# Altium schematic symbol library WCAP-ATG8.SchLib: 195 symbols (part 2 of 3)
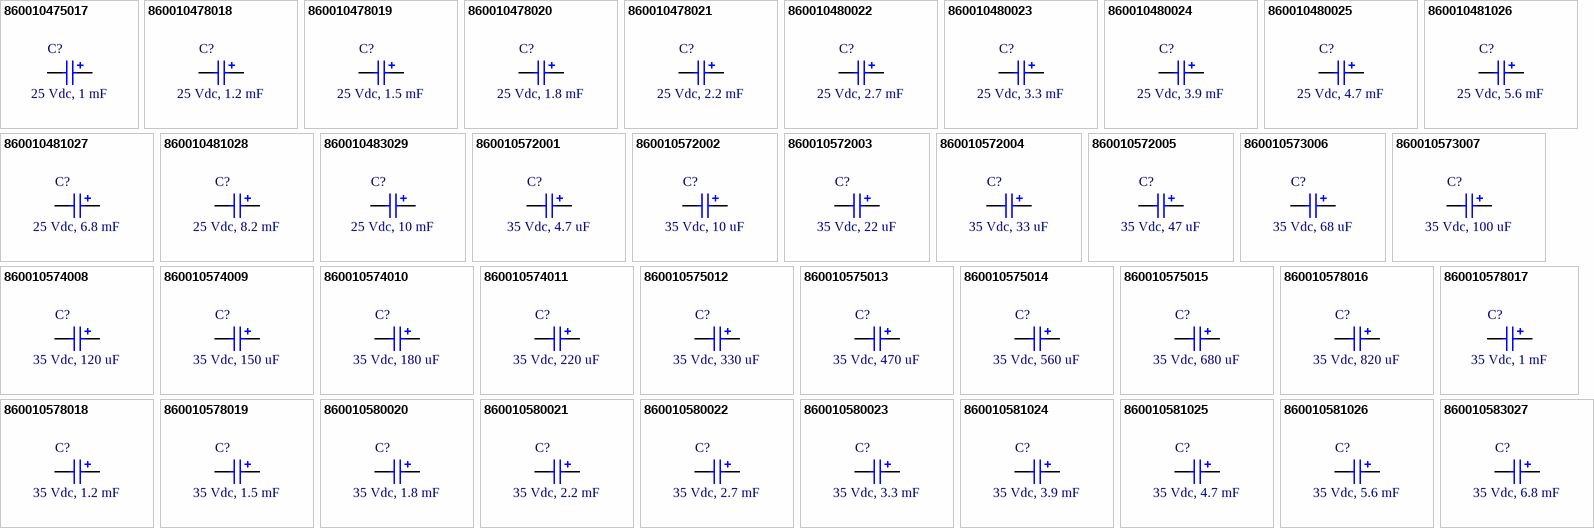
[diagram p5: symbols 860010475017 to 860010583027]

## 860010480024
designator C?, comment 25 Vdc, 3.9 mF
WCAP-ATG8 Aluminum Electrolytic Capacitors, 16x31.5mm, 25 Vdc, 3.9 mF; Part Number: 860010480024; Rated Voltage: 25 Vdc; Value: 3.9 mF; ComponentLink1Description: Manufacturer; ComponentLink1URL: http://www.we-online.de; ComponentLink2Description: Datasheet; ComponentLink2URL: http://katalog.we-online.de/pbs/datasheet/860010480024.pdf; Published Date: Sep. 2017; Publisher: Wurth Elektronik; Size: 16x31.5mm; Life Cycle: 2000h; Operating Temperature: -40 °C up to +85 °C
footprint WCAP-ATG8_16x31.5x7.5
pins: 1 P, 2 N

## 860010480025
designator C?, comment 25 Vdc, 4.7 mF
WCAP-ATG8 Aluminum Electrolytic Capacitors, 16x31.5mm, 25 Vdc, 4.7 mF; Part Number: 860010480025; Rated Voltage: 25 Vdc; Value: 4.7 mF; ComponentLink1Description: Manufacturer; ComponentLink1URL: http://www.we-online.de; ComponentLink2Description: Datasheet; ComponentLink2URL: http://katalog.we-online.de/pbs/datasheet/860010480025.pdf; Published Date: Sep. 2017; Publisher: Wurth Elektronik; Size: 16x31.5mm; Life Cycle: 2000h; Operating Temperature: -40 °C up to +85 °C
footprint WCAP-ATG8_16x31.5x7.5
pins: 1 P, 2 N

## 860010481026
designator C?, comment 25 Vdc, 5.6 mF
WCAP-ATG8 Aluminum Electrolytic Capacitors, 18x31.5mm, 25 Vdc, 5.6 mF; Part Number: 860010481026; Rated Voltage: 25 Vdc; Value: 5.6 mF; ComponentLink1Description: Manufacturer; ComponentLink1URL: http://www.we-online.de; ComponentLink2Description: Datasheet; ComponentLink2URL: http://katalog.we-online.de/pbs/datasheet/860010481026.pdf; Published Date: Sep. 2017; Publisher: Wurth Elektronik; Size: 18x31.5mm; Life Cycle: 2000h; Operating Temperature: -40 °C up to +85 °C
footprint WCAP-ATG8_18x31.5x7.5
pins: 1 P, 2 N

## 860010481027
designator C?, comment 25 Vdc, 6.8 mF
WCAP-ATG8 Aluminum Electrolytic Capacitors, 18x35.5mm, 25 Vdc, 6.8 mF; Part Number: 860010481027; Rated Voltage: 25 Vdc; Value: 6.8 mF; ComponentLink1Description: Manufacturer; ComponentLink1URL: http://www.we-online.de; ComponentLink2Description: Datasheet; ComponentLink2URL: http://katalog.we-online.de/pbs/datasheet/860010481027.pdf; Published Date: Sep. 2017; Publisher: Wurth Elektronik; Size: 18x35.5mm; Life Cycle: 2000h; Operating Temperature: -40 °C up to +85 °C
footprint WCAP-ATG8_18x35.5x7.5
pins: 1 P, 2 N

## 860010481028
designator C?, comment 25 Vdc, 8.2 mF
WCAP-ATG8 Aluminum Electrolytic Capacitors, 18x35.5mm, 25 Vdc, 8.2 mF; Part Number: 860010481028; Rated Voltage: 25 Vdc; Value: 8.2 mF; ComponentLink1Description: Manufacturer; ComponentLink1URL: http://www.we-online.de; ComponentLink2Description: Datasheet; ComponentLink2URL: http://katalog.we-online.de/pbs/datasheet/860010481028.pdf; Published Date: Sep. 2017; Publisher: Wurth Elektronik; Size: 18x35.5mm; Life Cycle: 2000h; Operating Temperature: -40 °C up to +85 °C
footprint WCAP-ATG8_18x35.5x7.5
pins: 1 P, 2 N

## 860010483029
designator C?, comment 25 Vdc, 10 mF
WCAP-ATG8 Aluminum Electrolytic Capacitors, 22x41mm, 25 Vdc, 10 mF; Part Number: 860010483029; Rated Voltage: 25 Vdc; Value: 10 mF; ComponentLink1Description: Manufacturer; ComponentLink1URL: http://www.we-online.de; ComponentLink2Description: Datasheet; ComponentLink2URL: http://katalog.we-online.de/pbs/datasheet/860010483029.pdf; Published Date: Sep. 2017; Publisher: Wurth Elektronik; Size: 22x41mm; Life Cycle: 2000h; Operating Temperature: -40 °C up to +85 °C
footprint WCAP-ATG8_22x41x10
pins: 1 P, 2 N

## 860010572001
designator C?, comment 35 Vdc, 4.7 uF
WCAP-ATG8 Aluminum Electrolytic Capacitors, 5x11mm, 35 Vdc, 4.7 uF; Part Number: 860010572001; Rated Voltage: 35 Vdc; Value: 4.7 uF; ComponentLink1Description: Manufacturer; ComponentLink1URL: http://www.we-online.de; ComponentLink2Description: Datasheet; ComponentLink2URL: http://katalog.we-online.de/pbs/datasheet/860010572001.pdf; Published Date: Sep. 2017; Publisher: Wurth Elektronik; Size: 5x11mm; Life Cycle: 2000h; Operating Temperature: -40 °C up to +85 °C
footprint WCAP-ATG8_5x11x2
pins: 1 P, 2 N

## 860010572002
designator C?, comment 35 Vdc, 10 uF
WCAP-ATG8 Aluminum Electrolytic Capacitors, 5x11mm, 35 Vdc, 10 uF; Part Number: 860010572002; Rated Voltage: 35 Vdc; Value: 10 uF; ComponentLink1Description: Manufacturer; ComponentLink1URL: http://www.we-online.de; ComponentLink2Description: Datasheet; ComponentLink2URL: http://katalog.we-online.de/pbs/datasheet/860010572002.pdf; Published Date: Sep. 2017; Publisher: Wurth Elektronik; Size: 5x11mm; Life Cycle: 2000h; Operating Temperature: -40 °C up to +85 °C
footprint WCAP-ATG8_5x11x2
pins: 1 P, 2 N

## 860010572003
designator C?, comment 35 Vdc, 22 uF
WCAP-ATG8 Aluminum Electrolytic Capacitors, 5x11mm, 35 Vdc, 22 uF; Part Number: 860010572003; Rated Voltage: 35 Vdc; Value: 22 uF; ComponentLink1Description: Manufacturer; ComponentLink1URL: http://www.we-online.de; ComponentLink2Description: Datasheet; ComponentLink2URL: http://katalog.we-online.de/pbs/datasheet/860010572003.pdf; Published Date: Sep. 2017; Publisher: Wurth Elektronik; Size: 5x11mm; Life Cycle: 2000h; Operating Temperature: -40 °C up to +85 °C
footprint WCAP-ATG8_5x11x2
pins: 1 P, 2 N

## 860010572004
designator C?, comment 35 Vdc, 33 uF
WCAP-ATG8 Aluminum Electrolytic Capacitors, 5x11mm, 35 Vdc, 33 uF; Part Number: 860010572004; Rated Voltage: 35 Vdc; Value: 33 uF; ComponentLink1Description: Manufacturer; ComponentLink1URL: http://www.we-online.de; ComponentLink2Description: Datasheet; ComponentLink2URL: http://katalog.we-online.de/pbs/datasheet/860010572004.pdf; Published Date: Sep. 2017; Publisher: Wurth Elektronik; Size: 5x11mm; Life Cycle: 2000h; Operating Temperature: -40 °C up to +85 °C
footprint WCAP-ATG8_5x11x2
pins: 1 P, 2 N

## 860010572005
designator C?, comment 35 Vdc, 47 uF
WCAP-ATG8 Aluminum Electrolytic Capacitors, 5x11mm, 35 Vdc, 47 uF; Part Number: 860010572005; Rated Voltage: 35 Vdc; Value: 47 uF; ComponentLink1Description: Manufacturer; ComponentLink1URL: http://www.we-online.de; ComponentLink2Description: Datasheet; ComponentLink2URL: http://katalog.we-online.de/pbs/datasheet/860010572005.pdf; Published Date: Sep. 2017; Publisher: Wurth Elektronik; Size: 5x11mm; Life Cycle: 2000h; Operating Temperature: -40 °C up to +85 °C
footprint WCAP-ATG8_5x11x2
pins: 1 P, 2 N

## 860010573006
designator C?, comment 35 Vdc, 68 uF
WCAP-ATG8 Aluminum Electrolytic Capacitors, 6.3x11mm, 35 Vdc, 68 uF; Part Number: 860010573006; Rated Voltage: 35 Vdc; Value: 68 uF; ComponentLink1Description: Manufacturer; ComponentLink1URL: http://www.we-online.de; ComponentLink2Description: Datasheet; ComponentLink2URL: http://katalog.we-online.de/pbs/datasheet/860010573006.pdf; Published Date: Sep. 2017; Publisher: Wurth Elektronik; Size: 6.3x11mm; Life Cycle: 2000h; Operating Temperature: -40 °C up to +85 °C
footprint WCAP-ATG8_6.3x11x2.5
pins: 1 P, 2 N

## 860010573007
designator C?, comment 35 Vdc, 100 uF
WCAP-ATG8 Aluminum Electrolytic Capacitors, 6.3x11mm, 35 Vdc, 100 uF; Part Number: 860010573007; Rated Voltage: 35 Vdc; Value: 100 uF; ComponentLink1Description: Manufacturer; ComponentLink1URL: http://www.we-online.de; ComponentLink2Description: Datasheet; ComponentLink2URL: http://katalog.we-online.de/pbs/datasheet/860010573007.pdf; Published Date: Sep. 2017; Publisher: Wurth Elektronik; Size: 6.3x11mm; Life Cycle: 2000h; Operating Temperature: -40 °C up to +85 °C
footprint WCAP-ATG8_6.3x11x2.5
pins: 1 P, 2 N

## 860010574008
designator C?, comment 35 Vdc, 120 uF
WCAP-ATG8 Aluminum Electrolytic Capacitors, 8x11.5mm, 35 Vdc, 120 uF; Part Number: 860010574008; Rated Voltage: 35 Vdc; Value: 120 uF; ComponentLink1Description: Manufacturer; ComponentLink1URL: http://www.we-online.de; ComponentLink2Description: Datasheet; ComponentLink2URL: http://katalog.we-online.de/pbs/datasheet/860010574008.pdf; Published Date: Sep. 2017; Publisher: Wurth Elektronik; Size: 8x11.5mm; Life Cycle: 2000h; Operating Temperature: -40 °C up to +85 °C
footprint WCAP-ATG8_8x11.5x3.5
pins: 1 P, 2 N

## 860010574009
designator C?, comment 35 Vdc, 150 uF
WCAP-ATG8 Aluminum Electrolytic Capacitors, 8x11.5mm, 35 Vdc, 150 uF; Part Number: 860010574009; Rated Voltage: 35 Vdc; Value: 150 uF; ComponentLink1Description: Manufacturer; ComponentLink1URL: http://www.we-online.de; ComponentLink2Description: Datasheet; ComponentLink2URL: http://katalog.we-online.de/pbs/datasheet/860010574009.pdf; Published Date: Sep. 2017; Publisher: Wurth Elektronik; Size: 8x11.5mm; Life Cycle: 2000h; Operating Temperature: -40 °C up to +85 °C
footprint WCAP-ATG8_8x11.5x3.5
pins: 1 P, 2 N

## 860010574010
designator C?, comment 35 Vdc, 180 uF
WCAP-ATG8 Aluminum Electrolytic Capacitors, 8x11.5mm, 35 Vdc, 180 uF; Part Number: 860010574010; Rated Voltage: 35 Vdc; Value: 180 uF; ComponentLink1Description: Manufacturer; ComponentLink1URL: http://www.we-online.de; ComponentLink2Description: Datasheet; ComponentLink2URL: http://katalog.we-online.de/pbs/datasheet/860010574010.pdf; Published Date: Sep. 2017; Publisher: Wurth Elektronik; Size: 8x11.5mm; Life Cycle: 2000h; Operating Temperature: -40 °C up to +85 °C
footprint WCAP-ATG8_8x11.5x3.5
pins: 1 P, 2 N

## 860010574011
designator C?, comment 35 Vdc, 220 uF
WCAP-ATG8 Aluminum Electrolytic Capacitors, 8x11.5mm, 35 Vdc, 220 uF; Part Number: 860010574011; Rated Voltage: 35 Vdc; Value: 220 uF; ComponentLink1Description: Manufacturer; ComponentLink1URL: http://www.we-online.de; ComponentLink2Description: Datasheet; ComponentLink2URL: http://katalog.we-online.de/pbs/datasheet/860010574011.pdf; Published Date: Sep. 2017; Publisher: Wurth Elektronik; Size: 8x11.5mm; Life Cycle: 2000h; Operating Temperature: -40 °C up to +85 °C
footprint WCAP-ATG8_8x11.5x3.5
pins: 1 P, 2 N

## 860010575012
designator C?, comment 35 Vdc, 330 uF
WCAP-ATG8 Aluminum Electrolytic Capacitors, 10x12.5mm, 35 Vdc, 330 uF; Part Number: 860010575012; Rated Voltage: 35 Vdc; Value: 330 uF; ComponentLink1Description: Manufacturer; ComponentLink1URL: http://www.we-online.de; ComponentLink2Description: Datasheet; ComponentLink2URL: http://katalog.we-online.de/pbs/datasheet/860010575012.pdf; Published Date: Sep. 2017; Publisher: Wurth Elektronik; Size: 10x12.5mm; Life Cycle: 2000h; Operating Temperature: -40 °C up to +85 °C
footprint WCAP-ATG8_10x12.5x5
pins: 1 P, 2 N

## 860010575013
designator C?, comment 35 Vdc, 470 uF
WCAP-ATG8 Aluminum Electrolytic Capacitors, 10x16mm, 35 Vdc, 470 uF; Part Number: 860010575013; Rated Voltage: 35 Vdc; Value: 470 uF; ComponentLink1Description: Manufacturer; ComponentLink1URL: http://www.we-online.de; ComponentLink2Description: Datasheet; ComponentLink2URL: http://katalog.we-online.de/pbs/datasheet/860010575013.pdf; Published Date: Sep. 2017; Publisher: Wurth Elektronik; Size: 10x16mm; Life Cycle: 2000h; Operating Temperature: -40 °C up to +85 °C
footprint WCAP-ATG8_10x16x5
pins: 1 P, 2 N

## 860010575014
designator C?, comment 35 Vdc, 560 uF
WCAP-ATG8 Aluminum Electrolytic Capacitors, 10x20mm, 35 Vdc, 560 uF; Part Number: 860010575014; Rated Voltage: 35 Vdc; Value: 560 uF; ComponentLink1Description: Manufacturer; ComponentLink1URL: http://www.we-online.de; ComponentLink2Description: Datasheet; ComponentLink2URL: http://katalog.we-online.de/pbs/datasheet/860010575014.pdf; Published Date: Sep. 2017; Publisher: Wurth Elektronik; Size: 10x20mm; Life Cycle: 2000h; Operating Temperature: -40 °C up to +85 °C
footprint WCAP-ATG8_10x20x5
pins: 1 P, 2 N

## 860010575015
designator C?, comment 35 Vdc, 680 uF
WCAP-ATG8 Aluminum Electrolytic Capacitors, 10x20mm, 35 Vdc, 680 uF; Part Number: 860010575015; Rated Voltage: 35 Vdc; Value: 680 uF; ComponentLink1Description: Manufacturer; ComponentLink1URL: http://www.we-online.de; ComponentLink2Description: Datasheet; ComponentLink2URL: http://katalog.we-online.de/pbs/datasheet/860010575015.pdf; Published Date: Sep. 2017; Publisher: Wurth Elektronik; Size: 10x20mm; Life Cycle: 2000h; Operating Temperature: -40 °C up to +85 °C
footprint WCAP-ATG8_10x20x5
pins: 1 P, 2 N

## 860010578016
designator C?, comment 35 Vdc, 820 uF
WCAP-ATG8 Aluminum Electrolytic Capacitors, 13x20mm, 35 Vdc, 820 uF; Part Number: 860010578016; Rated Voltage: 35 Vdc; Value: 820 uF; ComponentLink1Description: Manufacturer; ComponentLink1URL: http://www.we-online.de; ComponentLink2Description: Datasheet; ComponentLink2URL: http://katalog.we-online.de/pbs/datasheet/860010578016.pdf; Published Date: Sep. 2017; Publisher: Wurth Elektronik; Size: 13x20mm; Life Cycle: 2000h; Operating Temperature: -40 °C up to +85 °C
footprint WCAP-ATG8_13x20x5
pins: 1 P, 2 N

## 860010578017
designator C?, comment 35 Vdc, 1 mF
WCAP-ATG8 Aluminum Electrolytic Capacitors, 13x20mm, 35 Vdc, 1 mF; Part Number: 860010578017; Rated Voltage: 35 Vdc; Value: 1 mF; ComponentLink1Description: Manufacturer; ComponentLink1URL: http://www.we-online.de; ComponentLink2Description: Datasheet; ComponentLink2URL: http://katalog.we-online.de/pbs/datasheet/860010578017.pdf; Published Date: Sep. 2017; Publisher: Wurth Elektronik; Size: 13x20mm; Life Cycle: 2000h; Operating Temperature: -40 °C up to +85 °C
footprint WCAP-ATG8_13x20x5
pins: 1 P, 2 N

## 860010578018
designator C?, comment 35 Vdc, 1.2 mF
WCAP-ATG8 Aluminum Electrolytic Capacitors, 13x20mm, 35 Vdc, 1.2 mF; Part Number: 860010578018; Rated Voltage: 35 Vdc; Value: 1.2 mF; ComponentLink1Description: Manufacturer; ComponentLink1URL: http://www.we-online.de; ComponentLink2Description: Datasheet; ComponentLink2URL: http://katalog.we-online.de/pbs/datasheet/860010578018.pdf; Published Date: Sep. 2017; Publisher: Wurth Elektronik; Size: 13x20mm; Life Cycle: 2000h; Operating Temperature: -40 °C up to +85 °C
footprint WCAP-ATG8_13x20x5
pins: 1 P, 2 N

## 860010578019
designator C?, comment 35 Vdc, 1.5 mF
WCAP-ATG8 Aluminum Electrolytic Capacitors, 13x25mm, 35 Vdc, 1.5 mF; Part Number: 860010578019; Rated Voltage: 35 Vdc; Value: 1.5 mF; ComponentLink1Description: Manufacturer; ComponentLink1URL: http://www.we-online.de; ComponentLink2Description: Datasheet; ComponentLink2URL: http://katalog.we-online.de/pbs/datasheet/860010578019.pdf; Published Date: Sep. 2017; Publisher: Wurth Elektronik; Size: 13x25mm; Life Cycle: 2000h; Operating Temperature: -40 °C up to +85 °C
footprint WCAP-ATG8_13x25x5
pins: 1 P, 2 N

## 860010580020
designator C?, comment 35 Vdc, 1.8 mF
WCAP-ATG8 Aluminum Electrolytic Capacitors, 16x25mm, 35 Vdc, 1.8 mF; Part Number: 860010580020; Rated Voltage: 35 Vdc; Value: 1.8 mF; ComponentLink1Description: Manufacturer; ComponentLink1URL: http://www.we-online.de; ComponentLink2Description: Datasheet; ComponentLink2URL: http://katalog.we-online.de/pbs/datasheet/860010580020.pdf; Published Date: Sep. 2017; Publisher: Wurth Elektronik; Size: 16x25mm; Life Cycle: 2000h; Operating Temperature: -40 °C up to +85 °C
footprint WCAP-ATG8_16x25x7.5
pins: 1 P, 2 N

## 860010580021
designator C?, comment 35 Vdc, 2.2 mF
WCAP-ATG8 Aluminum Electrolytic Capacitors, 16x25mm, 35 Vdc, 2.2 mF; Part Number: 860010580021; Rated Voltage: 35 Vdc; Value: 2.2 mF; ComponentLink1Description: Manufacturer; ComponentLink1URL: http://www.we-online.de; ComponentLink2Description: Datasheet; ComponentLink2URL: http://katalog.we-online.de/pbs/datasheet/860010580021.pdf; Published Date: Sep. 2017; Publisher: Wurth Elektronik; Size: 16x25mm; Life Cycle: 2000h; Operating Temperature: -40 °C up to +85 °C
footprint WCAP-ATG8_16x25x7.5
pins: 1 P, 2 N

## 860010580022
designator C?, comment 35 Vdc, 2.7 mF
WCAP-ATG8 Aluminum Electrolytic Capacitors, 16x31.5mm, 35 Vdc, 2.7 mF; Part Number: 860010580022; Rated Voltage: 35 Vdc; Value: 2.7 mF; ComponentLink1Description: Manufacturer; ComponentLink1URL: http://www.we-online.de; ComponentLink2Description: Datasheet; ComponentLink2URL: http://katalog.we-online.de/pbs/datasheet/860010580022.pdf; Published Date: Sep. 2017; Publisher: Wurth Elektronik; Size: 16x31.5mm; Life Cycle: 2000h; Operating Temperature: -40 °C up to +85 °C
footprint WCAP-ATG8_16x31.5x7.5
pins: 1 P, 2 N

## 860010580023
designator C?, comment 35 Vdc, 3.3 mF
WCAP-ATG8 Aluminum Electrolytic Capacitors, 16x31.5mm, 35 Vdc, 3.3 mF; Part Number: 860010580023; Rated Voltage: 35 Vdc; Value: 3.3 mF; ComponentLink1Description: Manufacturer; ComponentLink1URL: http://www.we-online.de; ComponentLink2Description: Datasheet; ComponentLink2URL: http://katalog.we-online.de/pbs/datasheet/860010580023.pdf; Published Date: Sep. 2017; Publisher: Wurth Elektronik; Size: 16x31.5mm; Life Cycle: 2000h; Operating Temperature: -40 °C up to +85 °C
footprint WCAP-ATG8_16x31.5x7.5
pins: 1 P, 2 N

## 860010581024
designator C?, comment 35 Vdc, 3.9 mF
WCAP-ATG8 Aluminum Electrolytic Capacitors, 18x31.5mm, 35 Vdc, 3.9 mF; Part Number: 860010581024; Rated Voltage: 35 Vdc; Value: 3.9 mF; ComponentLink1Description: Manufacturer; ComponentLink1URL: http://www.we-online.de; ComponentLink2Description: Datasheet; ComponentLink2URL: http://katalog.we-online.de/pbs/datasheet/860010581024.pdf; Published Date: Sep. 2017; Publisher: Wurth Elektronik; Size: 18x31.5mm; Life Cycle: 2000h; Operating Temperature: -40 °C up to +85 °C
footprint WCAP-ATG8_18x31.5x7.5
pins: 1 P, 2 N

## 860010581025
designator C?, comment 35 Vdc, 4.7 mF
WCAP-ATG8 Aluminum Electrolytic Capacitors, 18x35.5mm, 35 Vdc, 4.7 mF; Part Number: 860010581025; Rated Voltage: 35 Vdc; Value: 4.7 mF; ComponentLink1Description: Manufacturer; ComponentLink1URL: http://www.we-online.de; ComponentLink2Description: Datasheet; ComponentLink2URL: http://katalog.we-online.de/pbs/datasheet/860010581025.pdf; Published Date: Sep. 2017; Publisher: Wurth Elektronik; Size: 18x35.5mm; Life Cycle: 2000h; Operating Temperature: -40 °C up to +85 °C
footprint WCAP-ATG8_18x35.5x7.5
pins: 1 P, 2 N

## 860010581026
designator C?, comment 35 Vdc, 5.6 mF
WCAP-ATG8 Aluminum Electrolytic Capacitors, 18x41mm, 35 Vdc, 5.6 mF; Part Number: 860010581026; Rated Voltage: 35 Vdc; Value: 5.6 mF; ComponentLink1Description: Manufacturer; ComponentLink1URL: http://www.we-online.de; ComponentLink2Description: Datasheet; ComponentLink2URL: http://katalog.we-online.de/pbs/datasheet/860010581026.pdf; Published Date: Sep. 2017; Publisher: Wurth Elektronik; Size: 18x41mm; Life Cycle: 2000h; Operating Temperature: -40 °C up to +85 °C
footprint WCAP-ATG8_18x41x7.5
pins: 1 P, 2 N

## 860010583027
designator C?, comment 35 Vdc, 6.8 mF
WCAP-ATG8 Aluminum Electrolytic Capacitors, 22x41mm, 35 Vdc, 6.8 mF; Part Number: 860010583027; Rated Voltage: 35 Vdc; Value: 6.8 mF; ComponentLink1Description: Manufacturer; ComponentLink1URL: http://www.we-online.de; ComponentLink2Description: Datasheet; ComponentLink2URL: http://katalog.we-online.de/pbs/datasheet/860010583027.pdf; Published Date: Sep. 2017; Publisher: Wurth Elektronik; Size: 22x41mm; Life Cycle: 2000h; Operating Temperature: -40 °C up to +85 °C
footprint WCAP-ATG8_22x41x10
pins: 1 P, 2 N

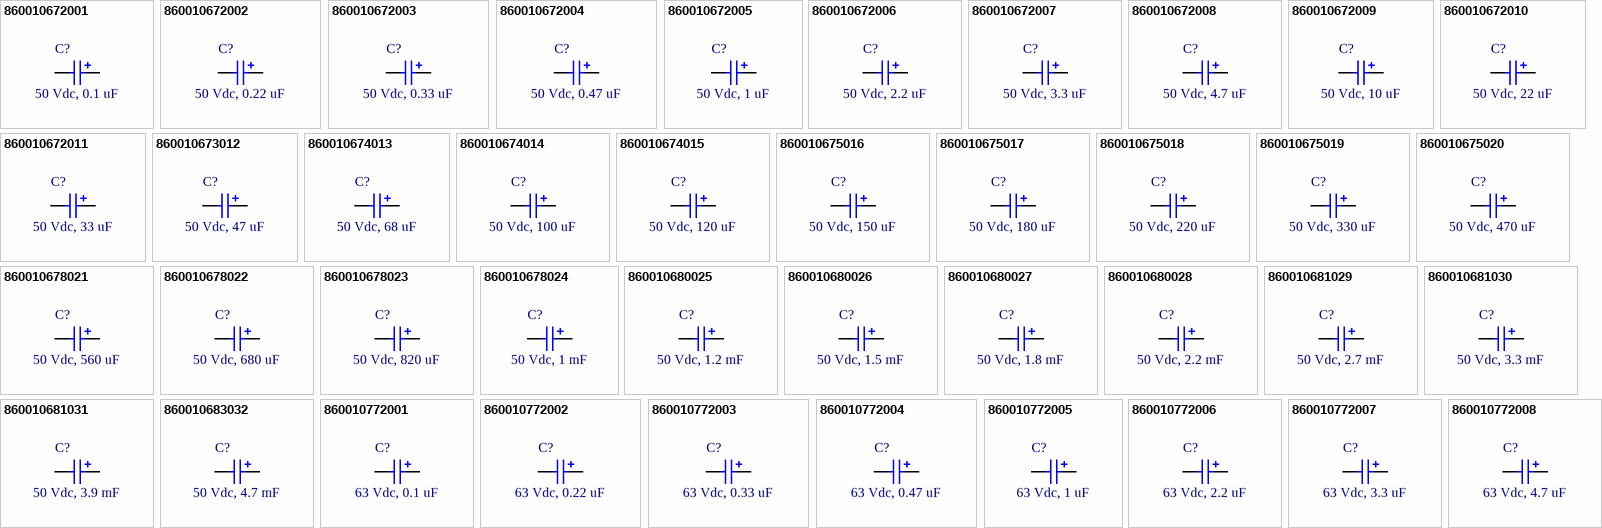
[diagram p3: symbols 860010672001 to 860010772008]

## 860010672001
designator C?, comment 50 Vdc, 0.1 uF
WCAP-ATG8 Aluminum Electrolytic Capacitors, 5x11mm, 50 Vdc, 0.1 uF; Part Number: 860010672001; Rated Voltage: 50 Vdc; Value: 0.1 uF; ComponentLink1Description: Manufacturer; ComponentLink1URL: http://www.we-online.de; ComponentLink2Description: Datasheet; ComponentLink2URL: http://katalog.we-online.de/pbs/datasheet/860010672001.pdf; Published Date: Sep. 2017; Publisher: Wurth Elektronik; Size: 5x11mm; Life Cycle: 2000h; Operating Temperature: -40 °C up to +85 °C
footprint WCAP-ATG8_5x11x2
pins: 1 P, 2 N

## 860010672002
designator C?, comment 50 Vdc, 0.22 uF
WCAP-ATG8 Aluminum Electrolytic Capacitors, 5x11mm, 50 Vdc, 0.22 uF; Part Number: 860010672002; Rated Voltage: 50 Vdc; Value: 0.22 uF; ComponentLink1Description: Manufacturer; ComponentLink1URL: http://www.we-online.de; ComponentLink2Description: Datasheet; ComponentLink2URL: http://katalog.we-online.de/pbs/datasheet/860010672002.pdf; Published Date: Sep. 2017; Publisher: Wurth Elektronik; Size: 5x11mm; Life Cycle: 2000h; Operating Temperature: -40 °C up to +85 °C
footprint WCAP-ATG8_5x11x2
pins: 1 P, 2 N

## 860010672003
designator C?, comment 50 Vdc, 0.33 uF
WCAP-ATG8 Aluminum Electrolytic Capacitors, 5x11mm, 50 Vdc, 0.33 uF; Part Number: 860010672003; Rated Voltage: 50 Vdc; Value: 0.33 uF; ComponentLink1Description: Manufacturer; ComponentLink1URL: http://www.we-online.de; ComponentLink2Description: Datasheet; ComponentLink2URL: http://katalog.we-online.de/pbs/datasheet/860010672003.pdf; Published Date: Sep. 2017; Publisher: Wurth Elektronik; Size: 5x11mm; Life Cycle: 2000h; Operating Temperature: -40 °C up to +85 °C
footprint WCAP-ATG8_5x11x2
pins: 1 P, 2 N

## 860010672004
designator C?, comment 50 Vdc, 0.47 uF
WCAP-ATG8 Aluminum Electrolytic Capacitors, 5x11mm, 50 Vdc, 0.47 uF; Part Number: 860010672004; Rated Voltage: 50 Vdc; Value: 0.47 uF; ComponentLink1Description: Manufacturer; ComponentLink1URL: http://www.we-online.de; ComponentLink2Description: Datasheet; ComponentLink2URL: http://katalog.we-online.de/pbs/datasheet/860010672004.pdf; Published Date: Sep. 2017; Publisher: Wurth Elektronik; Size: 5x11mm; Life Cycle: 2000h; Operating Temperature: -40 °C up to +85 °C
footprint WCAP-ATG8_5x11x2
pins: 1 P, 2 N

## 860010672005
designator C?, comment 50 Vdc, 1 uF
WCAP-ATG8 Aluminum Electrolytic Capacitors, 5x11mm, 50 Vdc, 1 uF; Part Number: 860010672005; Rated Voltage: 50 Vdc; Value: 1 uF; ComponentLink1Description: Manufacturer; ComponentLink1URL: http://www.we-online.de; ComponentLink2Description: Datasheet; ComponentLink2URL: http://katalog.we-online.de/pbs/datasheet/860010672005.pdf; Published Date: Sep. 2017; Publisher: Wurth Elektronik; Size: 5x11mm; Life Cycle: 2000h; Operating Temperature: -40 °C up to +85 °C
footprint WCAP-ATG8_5x11x2
pins: 1 P, 2 N

## 860010672006
designator C?, comment 50 Vdc, 2.2 uF
WCAP-ATG8 Aluminum Electrolytic Capacitors, 5x11mm, 50 Vdc, 2.2 uF; Part Number: 860010672006; Rated Voltage: 50 Vdc; Value: 2.2 uF; ComponentLink1Description: Manufacturer; ComponentLink1URL: http://www.we-online.de; ComponentLink2Description: Datasheet; ComponentLink2URL: http://katalog.we-online.de/pbs/datasheet/860010672006.pdf; Published Date: Sep. 2017; Publisher: Wurth Elektronik; Size: 5x11mm; Life Cycle: 2000h; Operating Temperature: -40 °C up to +85 °C
footprint WCAP-ATG8_5x11x2
pins: 1 P, 2 N

## 860010672007
designator C?, comment 50 Vdc, 3.3 uF
WCAP-ATG8 Aluminum Electrolytic Capacitors, 5x11mm, 50 Vdc, 3.3 uF; Part Number: 860010672007; Rated Voltage: 50 Vdc; Value: 3.3 uF; ComponentLink1Description: Manufacturer; ComponentLink1URL: http://www.we-online.de; ComponentLink2Description: Datasheet; ComponentLink2URL: http://katalog.we-online.de/pbs/datasheet/860010672007.pdf; Published Date: Sep. 2017; Publisher: Wurth Elektronik; Size: 5x11mm; Life Cycle: 2000h; Operating Temperature: -40 °C up to +85 °C
footprint WCAP-ATG8_5x11x2
pins: 1 P, 2 N

## 860010672008
designator C?, comment 50 Vdc, 4.7 uF
WCAP-ATG8 Aluminum Electrolytic Capacitors, 5x11mm, 50 Vdc, 4.7 uF; Part Number: 860010672008; Rated Voltage: 50 Vdc; Value: 4.7 uF; ComponentLink1Description: Manufacturer; ComponentLink1URL: http://www.we-online.de; ComponentLink2Description: Datasheet; ComponentLink2URL: http://katalog.we-online.de/pbs/datasheet/860010672008.pdf; Published Date: Sep. 2017; Publisher: Wurth Elektronik; Size: 5x11mm; Life Cycle: 2000h; Operating Temperature: -40 °C up to +85 °C
footprint WCAP-ATG8_5x11x2
pins: 1 P, 2 N

## 860010672009
designator C?, comment 50 Vdc, 10 uF
WCAP-ATG8 Aluminum Electrolytic Capacitors, 5x11mm, 50 Vdc, 10 uF; Part Number: 860010672009; Rated Voltage: 50 Vdc; Value: 10 uF; ComponentLink1Description: Manufacturer; ComponentLink1URL: http://www.we-online.de; ComponentLink2Description: Datasheet; ComponentLink2URL: http://katalog.we-online.de/pbs/datasheet/860010672009.pdf; Published Date: Sep. 2017; Publisher: Wurth Elektronik; Size: 5x11mm; Life Cycle: 2000h; Operating Temperature: -40 °C up to +85 °C
footprint WCAP-ATG8_5x11x2
pins: 1 P, 2 N

## 860010672010
designator C?, comment 50 Vdc, 22 uF
WCAP-ATG8 Aluminum Electrolytic Capacitors, 5x11mm, 50 Vdc, 22 uF; Part Number: 860010672010; Rated Voltage: 50 Vdc; Value: 22 uF; ComponentLink1Description: Manufacturer; ComponentLink1URL: http://www.we-online.de; ComponentLink2Description: Datasheet; ComponentLink2URL: http://katalog.we-online.de/pbs/datasheet/860010672010.pdf; Published Date: Sep. 2017; Publisher: Wurth Elektronik; Size: 5x11mm; Life Cycle: 2000h; Operating Temperature: -40 °C up to +85 °C
footprint WCAP-ATG8_5x11x2
pins: 1 P, 2 N

## 860010672011
designator C?, comment 50 Vdc, 33 uF
WCAP-ATG8 Aluminum Electrolytic Capacitors, 5x11mm, 50 Vdc, 33 uF; Part Number: 860010672011; Rated Voltage: 50 Vdc; Value: 33 uF; ComponentLink1Description: Manufacturer; ComponentLink1URL: http://www.we-online.de; ComponentLink2Description: Datasheet; ComponentLink2URL: http://katalog.we-online.de/pbs/datasheet/860010672011.pdf; Published Date: Sep. 2017; Publisher: Wurth Elektronik; Size: 5x11mm; Life Cycle: 2000h; Operating Temperature: -40 °C up to +85 °C
footprint WCAP-ATG8_5x11x2
pins: 1 P, 2 N

## 860010673012
designator C?, comment 50 Vdc, 47 uF
WCAP-ATG8 Aluminum Electrolytic Capacitors, 6.3x11mm, 50 Vdc, 47 uF; Part Number: 860010673012; Rated Voltage: 50 Vdc; Value: 47 uF; ComponentLink1Description: Manufacturer; ComponentLink1URL: http://www.we-online.de; ComponentLink2Description: Datasheet; ComponentLink2URL: http://katalog.we-online.de/pbs/datasheet/860010673012.pdf; Published Date: Sep. 2017; Publisher: Wurth Elektronik; Size: 6.3x11mm; Life Cycle: 2000h; Operating Temperature: -40 °C up to +85 °C
footprint WCAP-ATG8_6.3x11x2.5
pins: 1 P, 2 N

## 860010674013
designator C?, comment 50 Vdc, 68 uF
WCAP-ATG8 Aluminum Electrolytic Capacitors, 8x11.5mm, 50 Vdc, 68 uF; Part Number: 860010674013; Rated Voltage: 50 Vdc; Value: 68 uF; ComponentLink1Description: Manufacturer; ComponentLink1URL: http://www.we-online.de; ComponentLink2Description: Datasheet; ComponentLink2URL: http://katalog.we-online.de/pbs/datasheet/860010674013.pdf; Published Date: Sep. 2017; Publisher: Wurth Elektronik; Size: 8x11.5mm; Life Cycle: 2000h; Operating Temperature: -40 °C up to +85 °C
footprint WCAP-ATG8_8x11.5x3.5
pins: 1 P, 2 N

## 860010674014
designator C?, comment 50 Vdc, 100 uF
WCAP-ATG8 Aluminum Electrolytic Capacitors, 8x11.5mm, 50 Vdc, 100 uF; Part Number: 860010674014; Rated Voltage: 50 Vdc; Value: 100 uF; ComponentLink1Description: Manufacturer; ComponentLink1URL: http://www.we-online.de; ComponentLink2Description: Datasheet; ComponentLink2URL: http://katalog.we-online.de/pbs/datasheet/860010674014.pdf; Published Date: Sep. 2017; Publisher: Wurth Elektronik; Size: 8x11.5mm; Life Cycle: 2000h; Operating Temperature: -40 °C up to +85 °C
footprint WCAP-ATG8_8x11.5x3.5
pins: 1 P, 2 N

## 860010674015
designator C?, comment 50 Vdc, 120 uF
WCAP-ATG8 Aluminum Electrolytic Capacitors, 8x11.5mm, 50 Vdc, 120 uF; Part Number: 860010674015; Rated Voltage: 50 Vdc; Value: 120 uF; ComponentLink1Description: Manufacturer; ComponentLink1URL: http://www.we-online.de; ComponentLink2Description: Datasheet; ComponentLink2URL: http://katalog.we-online.de/pbs/datasheet/860010674015.pdf; Published Date: Sep. 2017; Publisher: Wurth Elektronik; Size: 8x11.5mm; Life Cycle: 2000h; Operating Temperature: -40 °C up to +85 °C
footprint WCAP-ATG8_8x11.5x3.5
pins: 1 P, 2 N

## 860010675016
designator C?, comment 50 Vdc, 150 uF
WCAP-ATG8 Aluminum Electrolytic Capacitors, 10x12.5mm, 50 Vdc, 150 uF; Part Number: 860010675016; Rated Voltage: 50 Vdc; Value: 150 uF; ComponentLink1Description: Manufacturer; ComponentLink1URL: http://www.we-online.de; ComponentLink2Description: Datasheet; ComponentLink2URL: http://katalog.we-online.de/pbs/datasheet/860010675016.pdf; Published Date: Sep. 2017; Publisher: Wurth Elektronik; Size: 10x12.5mm; Life Cycle: 2000h; Operating Temperature: -40 °C up to +85 °C
footprint WCAP-ATG8_10x12.5x5
pins: 1 P, 2 N

## 860010675017
designator C?, comment 50 Vdc, 180 uF
WCAP-ATG8 Aluminum Electrolytic Capacitors, 10x12.5mm, 50 Vdc, 180 uF; Part Number: 860010675017; Rated Voltage: 50 Vdc; Value: 180 uF; ComponentLink1Description: Manufacturer; ComponentLink1URL: http://www.we-online.de; ComponentLink2Description: Datasheet; ComponentLink2URL: http://katalog.we-online.de/pbs/datasheet/860010675017.pdf; Published Date: Sep. 2017; Publisher: Wurth Elektronik; Size: 10x12.5mm; Life Cycle: 2000h; Operating Temperature: -40 °C up to +85 °C
footprint WCAP-ATG8_10x12.5x5
pins: 1 P, 2 N

## 860010675018
designator C?, comment 50 Vdc, 220 uF
WCAP-ATG8 Aluminum Electrolytic Capacitors, 10x12.5mm, 50 Vdc, 220 uF; Part Number: 860010675018; Rated Voltage: 50 Vdc; Value: 220 uF; ComponentLink1Description: Manufacturer; ComponentLink1URL: http://www.we-online.de; ComponentLink2Description: Datasheet; ComponentLink2URL: http://katalog.we-online.de/pbs/datasheet/860010675018.pdf; Published Date: Sep. 2017; Publisher: Wurth Elektronik; Size: 10x12.5mm; Life Cycle: 2000h; Operating Temperature: -40 °C up to +85 °C
footprint WCAP-ATG8_10x12.5x5
pins: 1 P, 2 N

## 860010675019
designator C?, comment 50 Vdc, 330 uF
WCAP-ATG8 Aluminum Electrolytic Capacitors, 10x16mm, 50 Vdc, 330 uF; Part Number: 860010675019; Rated Voltage: 50 Vdc; Value: 330 uF; ComponentLink1Description: Manufacturer; ComponentLink1URL: http://www.we-online.de; ComponentLink2Description: Datasheet; ComponentLink2URL: http://katalog.we-online.de/pbs/datasheet/860010675019.pdf; Published Date: Sep. 2017; Publisher: Wurth Elektronik; Size: 10x16mm; Life Cycle: 2000h; Operating Temperature: -40 °C up to +85 °C
footprint WCAP-ATG8_10x16x5
pins: 1 P, 2 N

## 860010675020
designator C?, comment 50 Vdc, 470 uF
WCAP-ATG8 Aluminum Electrolytic Capacitors, 10x20mm, 50 Vdc, 470 uF; Part Number: 860010675020; Rated Voltage: 50 Vdc; Value: 470 uF; ComponentLink1Description: Manufacturer; ComponentLink1URL: http://www.we-online.de; ComponentLink2Description: Datasheet; ComponentLink2URL: http://katalog.we-online.de/pbs/datasheet/860010675020.pdf; Published Date: Sep. 2017; Publisher: Wurth Elektronik; Size: 10x20mm; Life Cycle: 2000h; Operating Temperature: -40 °C up to +85 °C
footprint WCAP-ATG8_10x20x5
pins: 1 P, 2 N

## 860010678021
designator C?, comment 50 Vdc, 560 uF
WCAP-ATG8 Aluminum Electrolytic Capacitors, 13x20mm, 50 Vdc, 560 uF; Part Number: 860010678021; Rated Voltage: 50 Vdc; Value: 560 uF; ComponentLink1Description: Manufacturer; ComponentLink1URL: http://www.we-online.de; ComponentLink2Description: Datasheet; ComponentLink2URL: http://katalog.we-online.de/pbs/datasheet/860010678021.pdf; Published Date: Sep. 2017; Publisher: Wurth Elektronik; Size: 13x20mm; Life Cycle: 2000h; Operating Temperature: -40 °C up to +85 °C
footprint WCAP-ATG8_13x20x5
pins: 1 P, 2 N

## 860010678022
designator C?, comment 50 Vdc, 680 uF
WCAP-ATG8 Aluminum Electrolytic Capacitors, 13x20mm, 50 Vdc, 680 uF; Part Number: 860010678022; Rated Voltage: 50 Vdc; Value: 680 uF; ComponentLink1Description: Manufacturer; ComponentLink1URL: http://www.we-online.de; ComponentLink2Description: Datasheet; ComponentLink2URL: http://katalog.we-online.de/pbs/datasheet/860010678022.pdf; Published Date: Sep. 2017; Publisher: Wurth Elektronik; Size: 13x20mm; Life Cycle: 2000h; Operating Temperature: -40 °C up to +85 °C
footprint WCAP-ATG8_13x20x5
pins: 1 P, 2 N

## 860010678023
designator C?, comment 50 Vdc, 820 uF
WCAP-ATG8 Aluminum Electrolytic Capacitors, 13x25mm, 50 Vdc, 820 uF; Part Number: 860010678023; Rated Voltage: 50 Vdc; Value: 820 uF; ComponentLink1Description: Manufacturer; ComponentLink1URL: http://www.we-online.de; ComponentLink2Description: Datasheet; ComponentLink2URL: http://katalog.we-online.de/pbs/datasheet/860010678023.pdf; Published Date: Sep. 2017; Publisher: Wurth Elektronik; Size: 13x25mm; Life Cycle: 2000h; Operating Temperature: -40 °C up to +85 °C
footprint WCAP-ATG8_13x25x5
pins: 1 P, 2 N

## 860010678024
designator C?, comment 50 Vdc, 1 mF
WCAP-ATG8 Aluminum Electrolytic Capacitors, 13x25mm, 50 Vdc, 1 mF; Part Number: 860010678024; Rated Voltage: 50 Vdc; Value: 1 mF; ComponentLink1Description: Manufacturer; ComponentLink1URL: http://www.we-online.de; ComponentLink2Description: Datasheet; ComponentLink2URL: http://katalog.we-online.de/pbs/datasheet/860010678024.pdf; Published Date: Sep. 2017; Publisher: Wurth Elektronik; Size: 13x25mm; Life Cycle: 2000h; Operating Temperature: -40 °C up to +85 °C
footprint WCAP-ATG8_13x25x5
pins: 1 P, 2 N

## 860010680025
designator C?, comment 50 Vdc, 1.2 mF
WCAP-ATG8 Aluminum Electrolytic Capacitors, 16x25mm, 50 Vdc, 1.2 mF; Part Number: 860010680025; Rated Voltage: 50 Vdc; Value: 1.2 mF; ComponentLink1Description: Manufacturer; ComponentLink1URL: http://www.we-online.de; ComponentLink2Description: Datasheet; ComponentLink2URL: http://katalog.we-online.de/pbs/datasheet/860010680025.pdf; Published Date: Sep. 2017; Publisher: Wurth Elektronik; Size: 16x25mm; Life Cycle: 2000h; Operating Temperature: -40 °C up to +85 °C
footprint WCAP-ATG8_16x25x7.5
pins: 1 P, 2 N

## 860010680026
designator C?, comment 50 Vdc, 1.5 mF
WCAP-ATG8 Aluminum Electrolytic Capacitors, 16x31.5mm, 50 Vdc, 1.5 mF; Part Number: 860010680026; Rated Voltage: 50 Vdc; Value: 1.5 mF; ComponentLink1Description: Manufacturer; ComponentLink1URL: http://www.we-online.de; ComponentLink2Description: Datasheet; ComponentLink2URL: http://katalog.we-online.de/pbs/datasheet/860010680026.pdf; Published Date: Sep. 2017; Publisher: Wurth Elektronik; Size: 16x31.5mm; Life Cycle: 2000h; Operating Temperature: -40 °C up to +85 °C
footprint WCAP-ATG8_16x31.5x7.5
pins: 1 P, 2 N

## 860010680027
designator C?, comment 50 Vdc, 1.8 mF
WCAP-ATG8 Aluminum Electrolytic Capacitors, 16x31.5mm, 50 Vdc, 1.8 mF; Part Number: 860010680027; Rated Voltage: 50 Vdc; Value: 1.8 mF; ComponentLink1Description: Manufacturer; ComponentLink1URL: http://www.we-online.de; ComponentLink2Description: Datasheet; ComponentLink2URL: http://katalog.we-online.de/pbs/datasheet/860010680027.pdf; Published Date: Sep. 2017; Publisher: Wurth Elektronik; Size: 16x31.5mm; Life Cycle: 2000h; Operating Temperature: -40 °C up to +85 °C
footprint WCAP-ATG8_16x31.5x7.5
pins: 1 P, 2 N

## 860010680028
designator C?, comment 50 Vdc, 2.2 mF
WCAP-ATG8 Aluminum Electrolytic Capacitors, 16x35.5mm, 50 Vdc, 2.2 mF; Part Number: 860010680028; Rated Voltage: 50 Vdc; Value: 2.2 mF; ComponentLink1Description: Manufacturer; ComponentLink1URL: http://www.we-online.de; ComponentLink2Description: Datasheet; ComponentLink2URL: http://katalog.we-online.de/pbs/datasheet/860010680028.pdf; Published Date: Sep. 2017; Publisher: Wurth Elektronik; Size: 16x35.5mm; Life Cycle: 2000h; Operating Temperature: -40 °C up to +85 °C
footprint WCAP-ATG8_16x35.5x7.5
pins: 1 P, 2 N

## 860010681029
designator C?, comment 50 Vdc, 2.7 mF
WCAP-ATG8 Aluminum Electrolytic Capacitors, 18x31.5mm, 50 Vdc, 2.7 mF; Part Number: 860010681029; Rated Voltage: 50 Vdc; Value: 2.7 mF; ComponentLink1Description: Manufacturer; ComponentLink1URL: http://www.we-online.de; ComponentLink2Description: Datasheet; ComponentLink2URL: http://katalog.we-online.de/pbs/datasheet/860010681029.pdf; Published Date: Sep. 2017; Publisher: Wurth Elektronik; Size: 18x31.5mm; Life Cycle: 2000h; Operating Temperature: -40 °C up to +85 °C
footprint WCAP-ATG8_18x31.5x7.5
pins: 1 P, 2 N

## 860010681030
designator C?, comment 50 Vdc, 3.3 mF
WCAP-ATG8 Aluminum Electrolytic Capacitors, 18x35.5mm, 50 Vdc, 3.3 mF; Part Number: 860010681030; Rated Voltage: 50 Vdc; Value: 3.3 mF; ComponentLink1Description: Manufacturer; ComponentLink1URL: http://www.we-online.de; ComponentLink2Description: Datasheet; ComponentLink2URL: http://katalog.we-online.de/pbs/datasheet/860010681030.pdf; Published Date: Sep. 2017; Publisher: Wurth Elektronik; Size: 18x35.5mm; Life Cycle: 2000h; Operating Temperature: -40 °C up to +85 °C
footprint WCAP-ATG8_18x35.5x7.5
pins: 1 P, 2 N

## 860010681031
designator C?, comment 50 Vdc, 3.9 mF
WCAP-ATG8 Aluminum Electrolytic Capacitors, 18x41mm, 50 Vdc, 3.9 mF; Part Number: 860010681031; Rated Voltage: 50 Vdc; Value: 3.9 mF; ComponentLink1Description: Manufacturer; ComponentLink1URL: http://www.we-online.de; ComponentLink2Description: Datasheet; ComponentLink2URL: http://katalog.we-online.de/pbs/datasheet/860010681031.pdf; Published Date: Sep. 2017; Publisher: Wurth Elektronik; Size: 18x41mm; Life Cycle: 2000h; Operating Temperature: -40 °C up to +85 °C
footprint WCAP-ATG8_18x41x7.5
pins: 1 P, 2 N

## 860010683032
designator C?, comment 50 Vdc, 4.7 mF
WCAP-ATG8 Aluminum Electrolytic Capacitors, 22x41mm, 50 Vdc, 4.7 mF; Part Number: 860010683032; Rated Voltage: 50 Vdc; Value: 4.7 mF; ComponentLink1Description: Manufacturer; ComponentLink1URL: http://www.we-online.de; ComponentLink2Description: Datasheet; ComponentLink2URL: http://katalog.we-online.de/pbs/datasheet/860010683032.pdf; Published Date: Sep. 2017; Publisher: Wurth Elektronik; Size: 22x41mm; Life Cycle: 2000h; Operating Temperature: -40 °C up to +85 °C
footprint WCAP-ATG8_22x41x10
pins: 1 P, 2 N

## 860010772001
designator C?, comment 63 Vdc, 0.1 uF
WCAP-ATG8 Aluminum Electrolytic Capacitors, 5x11mm, 63 Vdc, 0.1 uF; Part Number: 860010772001; Rated Voltage: 63 Vdc; Value: 0.1 uF; ComponentLink1Description: Manufacturer; ComponentLink1URL: http://www.we-online.de; ComponentLink2Description: Datasheet; ComponentLink2URL: http://katalog.we-online.de/pbs/datasheet/860010772001.pdf; Published Date: Sep. 2017; Publisher: Wurth Elektronik; Size: 5x11mm; Life Cycle: 2000h; Operating Temperature: -40 °C up to +85 °C
footprint WCAP-ATG8_5x11x2
pins: 1 P, 2 N

## 860010772002
designator C?, comment 63 Vdc, 0.22 uF
WCAP-ATG8 Aluminum Electrolytic Capacitors, 5x11mm, 63 Vdc, 0.22 uF; Part Number: 860010772002; Rated Voltage: 63 Vdc; Value: 0.22 uF; ComponentLink1Description: Manufacturer; ComponentLink1URL: http://www.we-online.de; ComponentLink2Description: Datasheet; ComponentLink2URL: http://katalog.we-online.de/pbs/datasheet/860010772002.pdf; Published Date: Sep. 2017; Publisher: Wurth Elektronik; Size: 5x11mm; Life Cycle: 2000h; Operating Temperature: -40 °C up to +85 °C
footprint WCAP-ATG8_5x11x2
pins: 1 P, 2 N

## 860010772003
designator C?, comment 63 Vdc, 0.33 uF
WCAP-ATG8 Aluminum Electrolytic Capacitors, 5x11mm, 63 Vdc, 0.33 uF; Part Number: 860010772003; Rated Voltage: 63 Vdc; Value: 0.33 uF; ComponentLink1Description: Manufacturer; ComponentLink1URL: http://www.we-online.de; ComponentLink2Description: Datasheet; ComponentLink2URL: http://katalog.we-online.de/pbs/datasheet/860010772003.pdf; Published Date: Sep. 2017; Publisher: Wurth Elektronik; Size: 5x11mm; Life Cycle: 2000h; Operating Temperature: -40 °C up to +85 °C
footprint WCAP-ATG8_5x11x2
pins: 1 P, 2 N

## 860010772004
designator C?, comment 63 Vdc, 0.47 uF
WCAP-ATG8 Aluminum Electrolytic Capacitors, 5x11mm, 63 Vdc, 0.47 uF; Part Number: 860010772004; Rated Voltage: 63 Vdc; Value: 0.47 uF; ComponentLink1Description: Manufacturer; ComponentLink1URL: http://www.we-online.de; ComponentLink2Description: Datasheet; ComponentLink2URL: http://katalog.we-online.de/pbs/datasheet/860010772004.pdf; Published Date: Sep. 2017; Publisher: Wurth Elektronik; Size: 5x11mm; Life Cycle: 2000h; Operating Temperature: -40 °C up to +85 °C
footprint WCAP-ATG8_5x11x2
pins: 1 P, 2 N

## 860010772005
designator C?, comment 63 Vdc, 1 uF
WCAP-ATG8 Aluminum Electrolytic Capacitors, 5x11mm, 63 Vdc, 1 uF; Part Number: 860010772005; Rated Voltage: 63 Vdc; Value: 1 uF; ComponentLink1Description: Manufacturer; ComponentLink1URL: http://www.we-online.de; ComponentLink2Description: Datasheet; ComponentLink2URL: http://katalog.we-online.de/pbs/datasheet/860010772005.pdf; Published Date: Sep. 2017; Publisher: Wurth Elektronik; Size: 5x11mm; Life Cycle: 2000h; Operating Temperature: -40 °C up to +85 °C
footprint WCAP-ATG8_5x11x2
pins: 1 P, 2 N

## 860010772006
designator C?, comment 63 Vdc, 2.2 uF
WCAP-ATG8 Aluminum Electrolytic Capacitors, 5x11mm, 63 Vdc, 2.2 uF; Part Number: 860010772006; Rated Voltage: 63 Vdc; Value: 2.2 uF; ComponentLink1Description: Manufacturer; ComponentLink1URL: http://www.we-online.de; ComponentLink2Description: Datasheet; ComponentLink2URL: http://katalog.we-online.de/pbs/datasheet/860010772006.pdf; Published Date: Sep. 2017; Publisher: Wurth Elektronik; Size: 5x11mm; Life Cycle: 2000h; Operating Temperature: -40 °C up to +85 °C
footprint WCAP-ATG8_5x11x2
pins: 1 P, 2 N

## 860010772007
designator C?, comment 63 Vdc, 3.3 uF
WCAP-ATG8 Aluminum Electrolytic Capacitors, 5x11mm, 63 Vdc, 3.3 uF; Part Number: 860010772007; Rated Voltage: 63 Vdc; Value: 3.3 uF; ComponentLink1Description: Manufacturer; ComponentLink1URL: http://www.we-online.de; ComponentLink2Description: Datasheet; ComponentLink2URL: http://katalog.we-online.de/pbs/datasheet/860010772007.pdf; Published Date: Sep. 2017; Publisher: Wurth Elektronik; Size: 5x11mm; Life Cycle: 2000h; Operating Temperature: -40 °C up to +85 °C
footprint WCAP-ATG8_5x11x2
pins: 1 P, 2 N

## 860010772008
designator C?, comment 63 Vdc, 4.7 uF
WCAP-ATG8 Aluminum Electrolytic Capacitors, 5x11mm, 63 Vdc, 4.7 uF; Part Number: 860010772008; Rated Voltage: 63 Vdc; Value: 4.7 uF; ComponentLink1Description: Manufacturer; ComponentLink1URL: http://www.we-online.de; ComponentLink2Description: Datasheet; ComponentLink2URL: http://katalog.we-online.de/pbs/datasheet/860010772008.pdf; Published Date: Sep. 2017; Publisher: Wurth Elektronik; Size: 5x11mm; Life Cycle: 2000h; Operating Temperature: -40 °C up to +85 °C
footprint WCAP-ATG8_5x11x2
pins: 1 P, 2 N

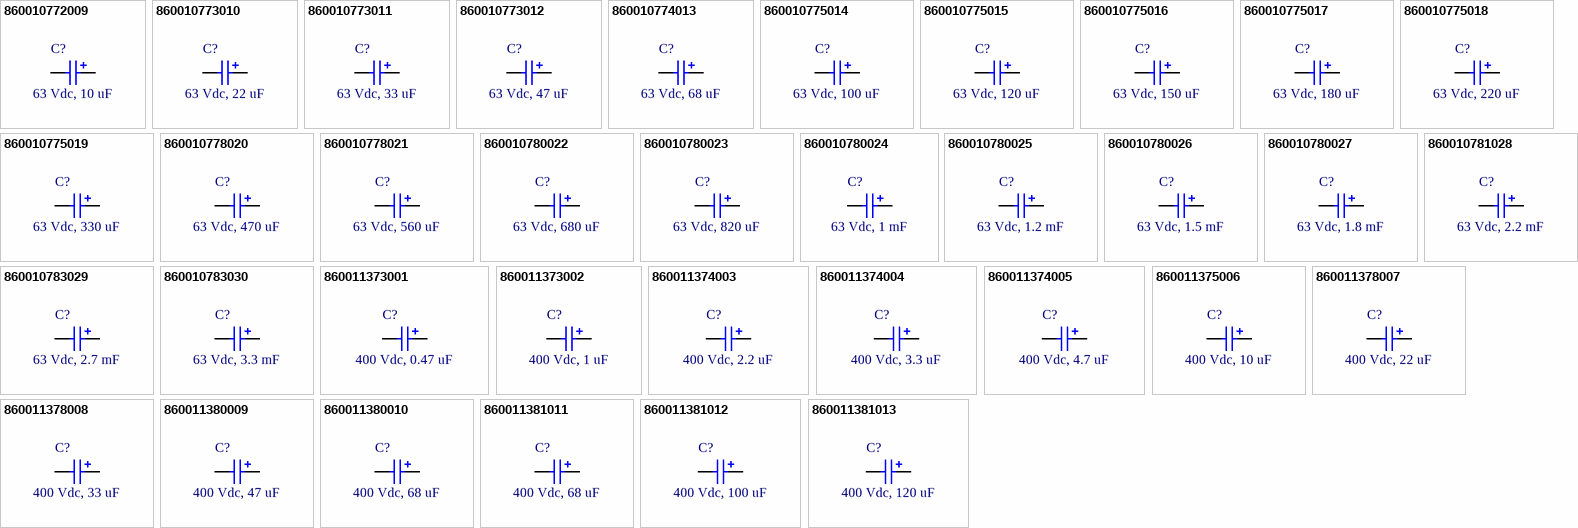
[diagram p4: symbols 860010772009 to 860011381013]

## 860010772009
designator C?, comment 63 Vdc, 10 uF
WCAP-ATG8 Aluminum Electrolytic Capacitors, 5x11mm, 63 Vdc, 10 uF; Part Number: 860010772009; Rated Voltage: 63 Vdc; Value: 10 uF; ComponentLink1Description: Manufacturer; ComponentLink1URL: http://www.we-online.de; ComponentLink2Description: Datasheet; ComponentLink2URL: http://katalog.we-online.de/pbs/datasheet/860010772009.pdf; Published Date: Sep. 2017; Publisher: Wurth Elektronik; Size: 5x11mm; Life Cycle: 2000h; Operating Temperature: -40 °C up to +85 °C
footprint WCAP-ATG8_5x11x2
pins: 1 P, 2 N

## 860010773010
designator C?, comment 63 Vdc, 22 uF
WCAP-ATG8 Aluminum Electrolytic Capacitors, 6.3x11mm, 63 Vdc, 22 uF; Part Number: 860010773010; Rated Voltage: 63 Vdc; Value: 22 uF; ComponentLink1Description: Manufacturer; ComponentLink1URL: http://www.we-online.de; ComponentLink2Description: Datasheet; ComponentLink2URL: http://katalog.we-online.de/pbs/datasheet/860010773010.pdf; Published Date: Sep. 2017; Publisher: Wurth Elektronik; Size: 6.3x11mm; Life Cycle: 2000h; Operating Temperature: -40 °C up to +85 °C
footprint WCAP-ATG8_6.3x11x2.5
pins: 1 P, 2 N

## 860010773011
designator C?, comment 63 Vdc, 33 uF
WCAP-ATG8 Aluminum Electrolytic Capacitors, 6.3x11mm, 63 Vdc, 33 uF; Part Number: 860010773011; Rated Voltage: 63 Vdc; Value: 33 uF; ComponentLink1Description: Manufacturer; ComponentLink1URL: http://www.we-online.de; ComponentLink2Description: Datasheet; ComponentLink2URL: http://katalog.we-online.de/pbs/datasheet/860010773011.pdf; Published Date: Sep. 2017; Publisher: Wurth Elektronik; Size: 6.3x11mm; Life Cycle: 2000h; Operating Temperature: -40 °C up to +85 °C
footprint WCAP-ATG8_6.3x11x2.5
pins: 1 P, 2 N

## 860010773012
designator C?, comment 63 Vdc, 47 uF
WCAP-ATG8 Aluminum Electrolytic Capacitors, 6.3x11mm, 63 Vdc, 47 uF; Part Number: 860010773012; Rated Voltage: 63 Vdc; Value: 47 uF; ComponentLink1Description: Manufacturer; ComponentLink1URL: http://www.we-online.de; ComponentLink2Description: Datasheet; ComponentLink2URL: http://katalog.we-online.de/pbs/datasheet/860010773012.pdf; Published Date: Sep. 2017; Publisher: Wurth Elektronik; Size: 6.3x11mm; Life Cycle: 2000h; Operating Temperature: -40 °C up to +85 °C
footprint WCAP-ATG8_6.3x11x2.5
pins: 1 P, 2 N

## 860010774013
designator C?, comment 63 Vdc, 68 uF
WCAP-ATG8 Aluminum Electrolytic Capacitors, 8x11.5mm, 63 Vdc, 68 uF; Part Number: 860010774013; Rated Voltage: 63 Vdc; Value: 68 uF; ComponentLink1Description: Manufacturer; ComponentLink1URL: http://www.we-online.de; ComponentLink2Description: Datasheet; ComponentLink2URL: http://katalog.we-online.de/pbs/datasheet/860010774013.pdf; Published Date: Sep. 2017; Publisher: Wurth Elektronik; Size: 8x11.5mm; Life Cycle: 2000h; Operating Temperature: -40 °C up to +85 °C
footprint WCAP-ATG8_8x11.5x3.5
pins: 1 P, 2 N

## 860010775014
designator C?, comment 63 Vdc, 100 uF
WCAP-ATG8 Aluminum Electrolytic Capacitors, 10x12.5mm, 63 Vdc, 100 uF; Part Number: 860010775014; Rated Voltage: 63 Vdc; Value: 100 uF; ComponentLink1Description: Manufacturer; ComponentLink1URL: http://www.we-online.de; ComponentLink2Description: Datasheet; ComponentLink2URL: http://katalog.we-online.de/pbs/datasheet/860010775014.pdf; Published Date: Sep. 2017; Publisher: Wurth Elektronik; Size: 10x12.5mm; Life Cycle: 2000h; Operating Temperature: -40 °C up to +85 °C
footprint WCAP-ATG8_10x12.5x5
pins: 1 P, 2 N

## 860010775015
designator C?, comment 63 Vdc, 120 uF
WCAP-ATG8 Aluminum Electrolytic Capacitors, 10x16mm, 63 Vdc, 120 uF; Part Number: 860010775015; Rated Voltage: 63 Vdc; Value: 120 uF; ComponentLink1Description: Manufacturer; ComponentLink1URL: http://www.we-online.de; ComponentLink2Description: Datasheet; ComponentLink2URL: http://katalog.we-online.de/pbs/datasheet/860010775015.pdf; Published Date: Sep. 2017; Publisher: Wurth Elektronik; Size: 10x16mm; Life Cycle: 2000h; Operating Temperature: -40 °C up to +85 °C
footprint WCAP-ATG8_10x16x5
pins: 1 P, 2 N

## 860010775016
designator C?, comment 63 Vdc, 150 uF
WCAP-ATG8 Aluminum Electrolytic Capacitors, 10x16mm, 63 Vdc, 150 uF; Part Number: 860010775016; Rated Voltage: 63 Vdc; Value: 150 uF; ComponentLink1Description: Manufacturer; ComponentLink1URL: http://www.we-online.de; ComponentLink2Description: Datasheet; ComponentLink2URL: http://katalog.we-online.de/pbs/datasheet/860010775016.pdf; Published Date: Sep. 2017; Publisher: Wurth Elektronik; Size: 10x16mm; Life Cycle: 2000h; Operating Temperature: -40 °C up to +85 °C
footprint WCAP-ATG8_10x16x5
pins: 1 P, 2 N

## 860010775017
designator C?, comment 63 Vdc, 180 uF
WCAP-ATG8 Aluminum Electrolytic Capacitors, 10x16mm, 63 Vdc, 180 uF; Part Number: 860010775017; Rated Voltage: 63 Vdc; Value: 180 uF; ComponentLink1Description: Manufacturer; ComponentLink1URL: http://www.we-online.de; ComponentLink2Description: Datasheet; ComponentLink2URL: http://katalog.we-online.de/pbs/datasheet/860010775017.pdf; Published Date: Sep. 2017; Publisher: Wurth Elektronik; Size: 10x16mm; Life Cycle: 2000h; Operating Temperature: -40 °C up to +85 °C
footprint WCAP-ATG8_10x16x5
pins: 1 P, 2 N

## 860010775018
designator C?, comment 63 Vdc, 220 uF
WCAP-ATG8 Aluminum Electrolytic Capacitors, 10x16mm, 63 Vdc, 220 uF; Part Number: 860010775018; Rated Voltage: 63 Vdc; Value: 220 uF; ComponentLink1Description: Manufacturer; ComponentLink1URL: http://www.we-online.de; ComponentLink2Description: Datasheet; ComponentLink2URL: http://katalog.we-online.de/pbs/datasheet/860010775018.pdf; Published Date: Sep. 2017; Publisher: Wurth Elektronik; Size: 10x16mm; Life Cycle: 2000h; Operating Temperature: -40 °C up to +85 °C
footprint WCAP-ATG8_10x16x5
pins: 1 P, 2 N

## 860010775019
designator C?, comment 63 Vdc, 330 uF
WCAP-ATG8 Aluminum Electrolytic Capacitors, 10x20mm, 63 Vdc, 330 uF; Part Number: 860010775019; Rated Voltage: 63 Vdc; Value: 330 uF; ComponentLink1Description: Manufacturer; ComponentLink1URL: http://www.we-online.de; ComponentLink2Description: Datasheet; ComponentLink2URL: http://katalog.we-online.de/pbs/datasheet/860010775019.pdf; Published Date: Sep. 2017; Publisher: Wurth Elektronik; Size: 10x20mm; Life Cycle: 2000h; Operating Temperature: -40 °C up to +85 °C
footprint WCAP-ATG8_10x20x5
pins: 1 P, 2 N

## 860010778020
designator C?, comment 63 Vdc, 470 uF
WCAP-ATG8 Aluminum Electrolytic Capacitors, 13x20mm, 63 Vdc, 470 uF; Part Number: 860010778020; Rated Voltage: 63 Vdc; Value: 470 uF; ComponentLink1Description: Manufacturer; ComponentLink1URL: http://www.we-online.de; ComponentLink2Description: Datasheet; ComponentLink2URL: http://katalog.we-online.de/pbs/datasheet/860010778020.pdf; Published Date: Sep. 2017; Publisher: Wurth Elektronik; Size: 13x20mm; Life Cycle: 2000h; Operating Temperature: -40 °C up to +85 °C
footprint WCAP-ATG8_13x20x5
pins: 1 P, 2 N

## 860010778021
designator C?, comment 63 Vdc, 560 uF
WCAP-ATG8 Aluminum Electrolytic Capacitors, 13x25mm, 63 Vdc, 560 uF; Part Number: 860010778021; Rated Voltage: 63 Vdc; Value: 560 uF; ComponentLink1Description: Manufacturer; ComponentLink1URL: http://www.we-online.de; ComponentLink2Description: Datasheet; ComponentLink2URL: http://katalog.we-online.de/pbs/datasheet/860010778021.pdf; Published Date: Sep. 2017; Publisher: Wurth Elektronik; Size: 13x25mm; Life Cycle: 2000h; Operating Temperature: -40 °C up to +85 °C
footprint WCAP-ATG8_13x25x5
pins: 1 P, 2 N

## 860010780022
designator C?, comment 63 Vdc, 680 uF
WCAP-ATG8 Aluminum Electrolytic Capacitors, 16x25mm, 63 Vdc, 680 uF; Part Number: 860010780022; Rated Voltage: 63 Vdc; Value: 680 uF; ComponentLink1Description: Manufacturer; ComponentLink1URL: http://www.we-online.de; ComponentLink2Description: Datasheet; ComponentLink2URL: http://katalog.we-online.de/pbs/datasheet/860010780022.pdf; Published Date: Sep. 2017; Publisher: Wurth Elektronik; Size: 16x25mm; Life Cycle: 2000h; Operating Temperature: -40 °C up to +85 °C
footprint WCAP-ATG8_16x25x7.5
pins: 1 P, 2 N